# Altium schematic symbol library SCH - POWER - LINEAR VREG - DIODES INC AP2138 5PIN.SCHLIB: 1 symbol
Pins are listed as number, name and electrical type; pins without a type are passive.

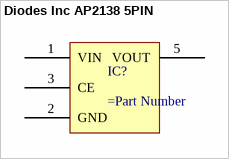
[diagram p0: symbol Diodes Inc AP2138 5PIN]

## Diodes Inc AP2138 5PIN
designator IC?
150mA Low quiescent current fast transient low drop out linear regulator
pins: 1 VIN, 2 GND, 3 CE, 5 VOUT